# EAGLE library part SI8600 (library PP_DigitalIC)
Manufacturer Part #: SI8600 Manufacturer: Silicon Labs Description: Digital Isolators 3.75kV Bidirect I2C Isolator 1.7MHz ADuM
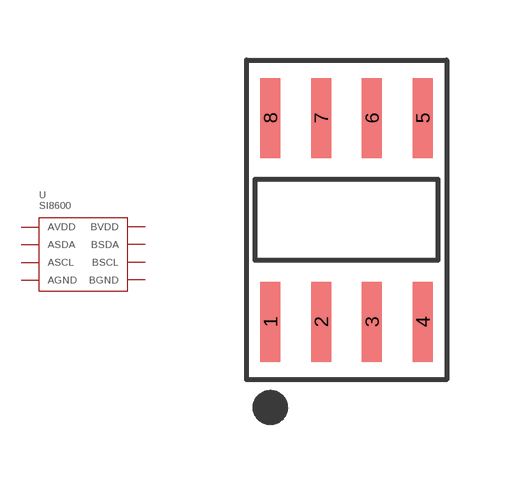
[diagram p27: symbol with the pads of SI8600_SOIC-8; footprint SI8600_SOIC-8]

Designator prefix U

## SI8600AC-B-IS  [SI8600_SOIC-8]
1  AVDD
2  ASDA
3  ASCL
4  AGND
5  BGND
6  BSCL
7  BSDA
8  BVDD

## Footprint SI8600_SOIC-8 (pad centres in mm)
smd 0.5 x 2: 1 -1.905,-2.55; 2 -0.635,-2.55; 3 0.635,-2.55; 4 1.905,-2.55; 5 1.905,2.55; 6 0.635,2.55; 7 -0.635,2.55; 8 -1.905,2.55